# Altium footprint library NCE6005AR_Mosfet_N.PcbLib: 1 footprints
Each footprint in its own frame and in the unit in brackets; x right, y up, seen from the top. Pads: shape width x height; smd on the part's side, far side on the other; paste and mask are expansions set on the pad; w line width, h text height; cw(c..) or ccw(c..) is an arc to the next point about the centre after c.
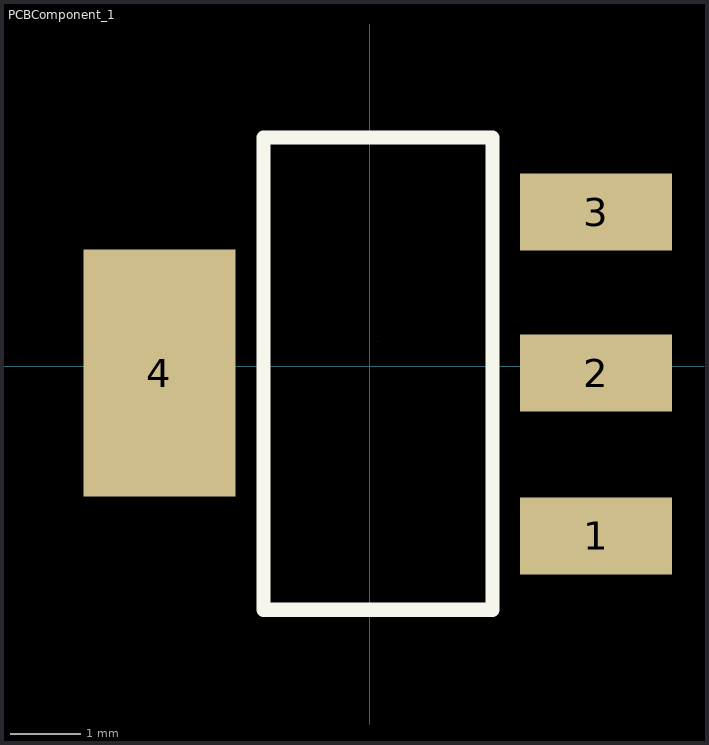
[diagram p0: the footprint, top view; thin cyan lines are the x and y axes]

## PCBComponent_1 [mil]
pads (4):
  rect 85x43 smd paste+0 mask+4: 1(126.5,-94.85) 2(126.5,-3.85) 3(126.5,86.15)
  rect 85x138 smd paste+0 mask+4: 4(-117.5,-3.85)
Top Overlay:
  lines w7.9: -59.3,-136.05 68.6,-136.05 68.6,127.75 -59.3,127.75 -59.3,-136.05
Mechanical 15:
  lines w0.1: 4.49,13.81 4.51,13.84